# EAGLE library part 613007143121 (library Board-to-Board (rev18a))
WR-PHD 2.54mm Angled Socket Header, 7 Pins =>Code : Con_BTB_SHD_2.54_1_THT_613007143121 <http://katalog.we-online.de/media/images/eican/Con_BTB_SHD_2.54_1_THT_6130xx143121_pf2.jpg> Details see: http://katalog.we-online.de/en/em/613_0xx_143_121 Created 2014-05-29, Karrer Zheng 2014 (C) Würth Elektronik
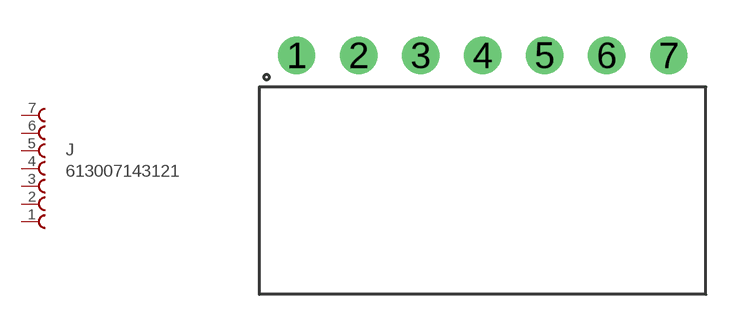
[diagram p127: symbol with the pads of 613007143121; footprint 613007143121]

Designator prefix J

## 613007143121  [613007143121]
1  7  pas
2  6  pas
3  5  pas
4  4  pas
5  3  pas
6  2  pas
7  1  pas

## Footprint 613007143121 (pad centres in mm)
WR-PHD 2.54mm Angled Socket Header, 7 Pins
drill 1.02: 1 -7.62,0; 2 -5.08,0; 3 -2.54,0; 4 0,0; 5 2.54,0; 6 5.08,0; 7 7.62,0